# Altium schematic symbol library STM_lib.SchLib: 1 symbol
Pins are listed as number, name and electrical type; pins without a type are passive.

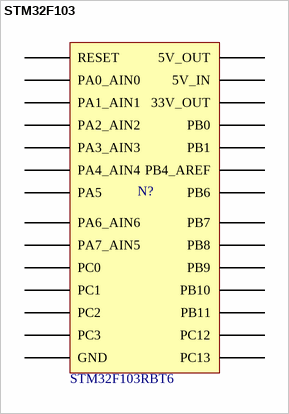
[diagram p0: symbol STM32F103]

## STM32F103
designator N?
footprint DIP28
pins: 1 PB4_AREF, 2 PA0_AIN0, 3 PA1_AIN1, 4 PA2_AIN2, 5 PA3_AIN3, 6 PA4_AIN4, 7 PA7_AIN5, 8 PA6_AIN6, 9 PC0, 10 PC1, 11 PC2, 12 PC3, 13 PB7, 14 PB6, 15 5V_OUT, 16 5V_IN, 17 33V_OUT, 18 GND, 19 RESET, 20 PB1, 21 PB0, 22 PA5, 23 PB11, 24 PB10, 25 PB9, 26 PB8, 27 PC13, 28 PC12
text: STM32F103RBT6